# Altium footprint library BMX055.PcbLib: 1 footprints
Each footprint in its own frame and in the unit in brackets; x right, y up, seen from the top. Pads: shape width x height; smd on the part's side, far side on the other; paste and mask are expansions set on the pad; w line width, h text height; cw(c..) or ccw(c..) is an arc to the next point about the centre after c.
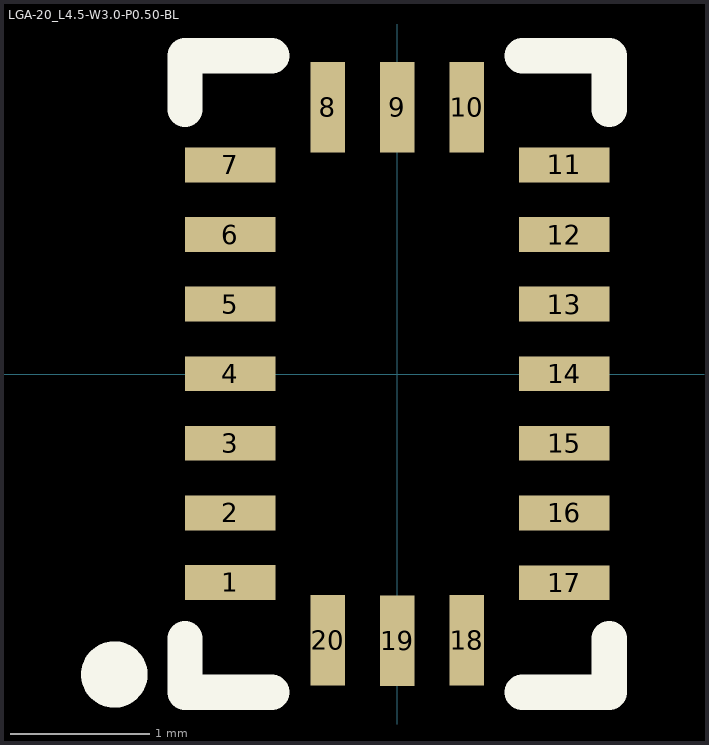
[diagram p0: the footprint, top view; thin cyan lines are the x and y axes]

## LGA-20_L4.5-W3.0-P0.50-BL [mm]
pads (20):
  rect 0.65x0.25 smd: 1(-1.199,-1.498) 2(-1.199,-0.998) 3(-1.199,-0.498) 4(-1.199,0.002) 5(-1.199,0.502) 6(-1.199,1.002) 7(-1.199,1.502)
  rect 0.249x0.65 smd: 8(-0.499,1.915) 9(0.001,1.915) 10(0.501,1.915) 18(0.501,-1.915) 19(0.001,-1.915) 20(-0.499,-1.915)
  rect 0.65x0.251 smd: 11(1.199,1.502) 12(1.199,1.002) 13(1.199,0.502)
  rect 0.65x0.249 smd: 14(1.199,0.003) 15(1.199,-0.498) 16(1.199,-0.998) 17(1.199,-1.499)
Top Overlay:
  circle w0.254: c-2.032,-2.159 r0.112
  lines w0.254: -1.524,-1.9 -1.524,-2.286 -0.9,-2.286 ; -1.524,1.9 -1.524,2.286 -0.9,2.286 ; 0.9,-2.286 1.524,-2.286 1.524,-1.9 ; 0.9,2.286 1.524,2.286 1.524,1.9
3D body: height 1, standoff 0, extent -1.5,-2.25 1.5,2.25